# Altium footprint library MicroLPR_DSP.PcbLib: 41 footprints (part 1 of 3)
Each footprint in its own frame and in the unit in brackets; x right, y up, seen from the top. Pads: shape width x height; smd on the part's side, far side on the other; paste and mask are expansions set on the pad; w line width, h text height; cw(c..) or ccw(c..) is an arc to the next point about the centre after c.
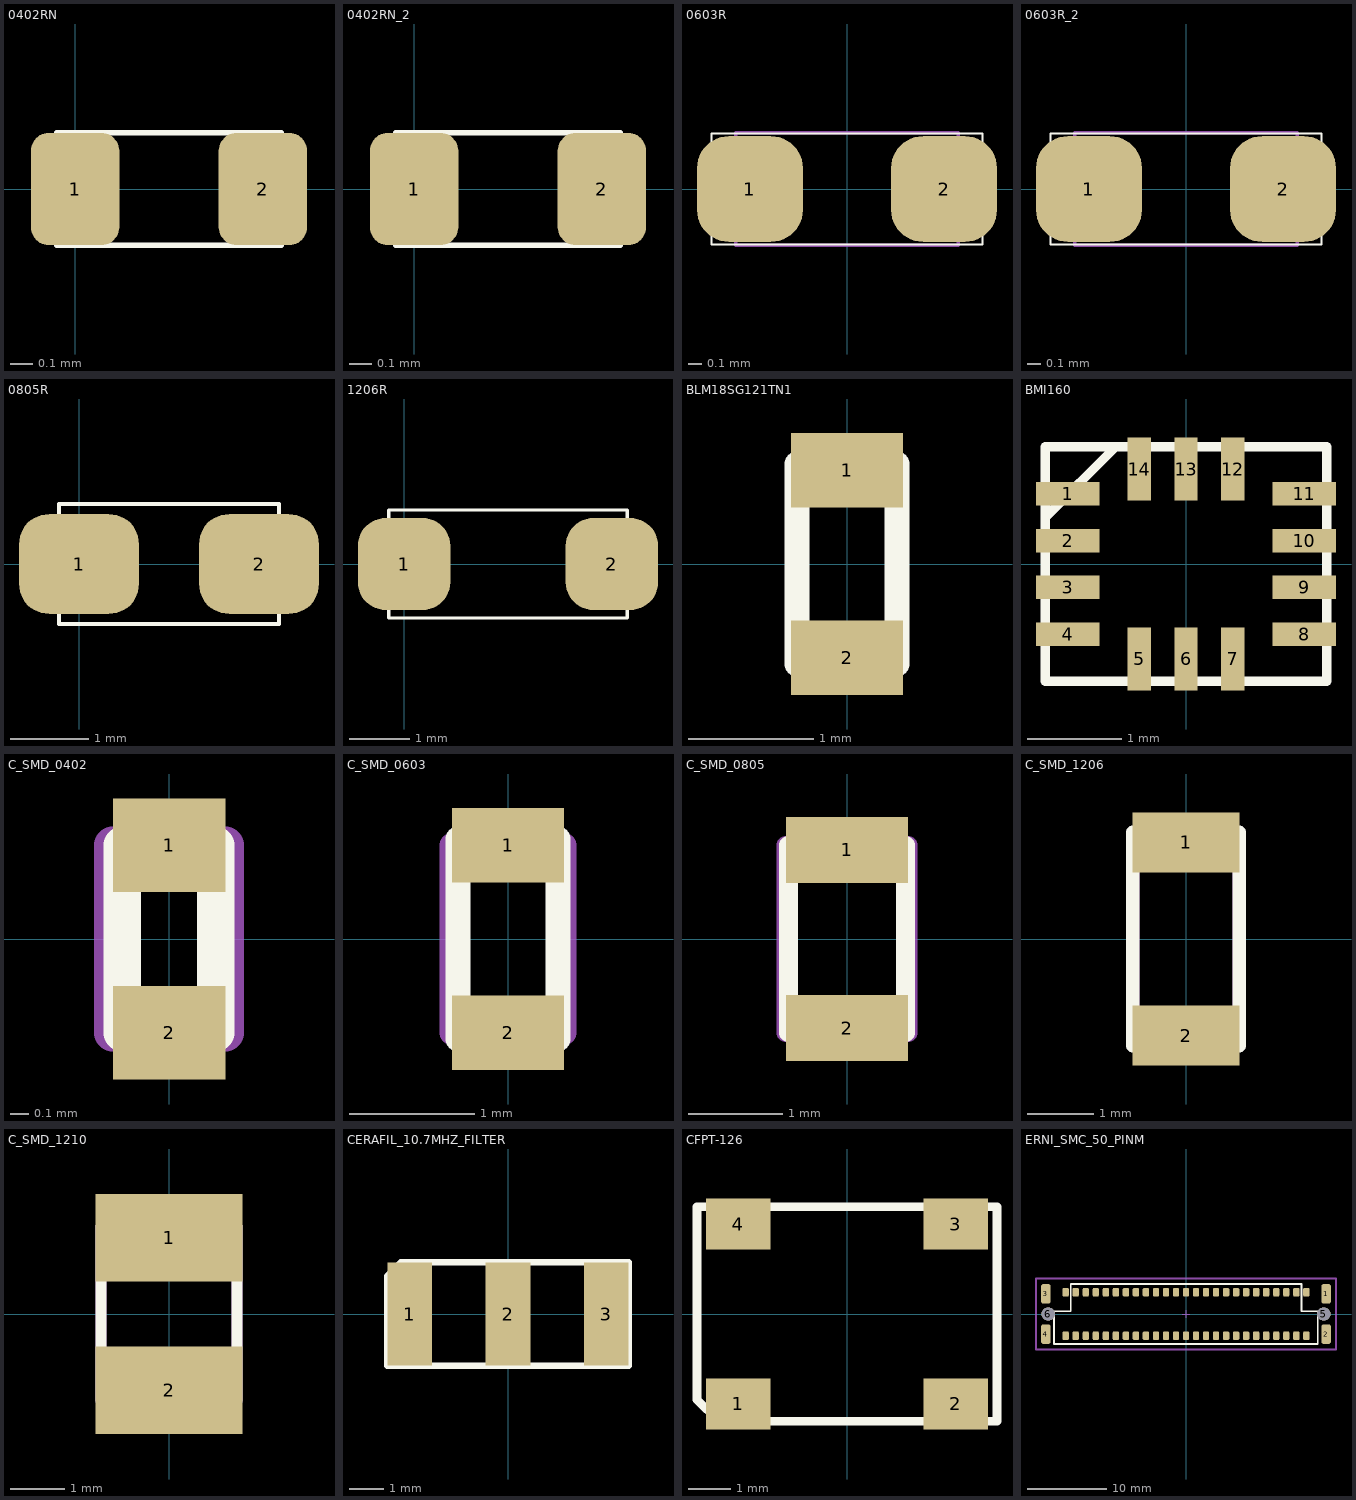
[diagram p0: the footprints below, top view; thin cyan lines are the x and y axes]

## 0402RN [mm] "New 0402 Pad with rounded corners"
height 13.5
pads (2):
  rrect40% 0.4x0.508 smd: 1(0,0) 2(0.85,0)
Top Overlay:
  lines w0.025: -0.083,-0.254 0.933,-0.254 0.933,0.254 -0.083,0.254 -0.083,-0.254
3D body: height 0.5, standoff 0, extent -0.096,-0.267 0.946,0.267

## 0402RN_2 [mm]
pads (2):
  rrect40% 0.4x0.508 smd: 1(0,0) 2(0.85,0)
Top Overlay:
  lines w0.025: -0.083,-0.254 0.933,-0.254 0.933,0.254 -0.083,0.254 -0.083,-0.254
3D body: height 0.5, standoff 0, extent -0.096,-0.267 0.946,0.267

## 0603R [mil]
pads (2):
  rrect60% 30x30 smd: 1(-27.52,0) 2(27.52,0)
Top Overlay:
  lines w0.5: -38.39,-15.75 -38.39,15.75 38.39,15.75 38.39,-15.75 -38.39,-15.75
Mechanical 13:
  lines w1: -31.5,-16 31.5,-16 31.5,16 -31.5,16 -31.5,-16
3D body: height 31.5, standoff 0, extent -31.48,-15.98 31.48,15.98

## 0603R_2 [mil]
pads (2):
  rrect60% 30x30 smd: 1(-27.52,0) 2(27.52,0)
Top Overlay:
  lines w0.5: -38.39,-15.75 38.39,-15.75 38.39,15.75 -38.39,15.75 -38.39,-15.75
Mechanical 13:
  lines w1: -31.5,-16 -31.5,16 31.5,16 31.5,-16 -31.5,-16
3D body: height 31.5, standoff 0, extent -31.48,-15.98 31.48,15.98

## 0805R [mil]
height 531.5
pads (2):
  rrect60% 60x50 smd: 1(0,0) 2(90,0)
Top Overlay:
  lines w2: -10,-30 -10,30 100,30 100,-30 -10,-30
3D body: height 47.24, standoff 0, extent -11,-31 101,31

## 1206R [mil]
height 39.37
pads (2):
  rrect60% 60x60 smd: 1(0,0) 2(135,0)
Top Overlay:
  lines w2: -10,-35 145,-35 145,35 -10,35 -10,-35
3D body: height 59.06, standoff 0, extent -9.98,-34.98 144.98,34.98

## BLM18SG121TN1 [mm] "120R1MHz/0.025DC"
pads (2):
  rect 0.9x0.6 smd: 1(0,0.75) 2(0,-0.75)
Top Overlay:
  lines w0.2: -0.4,-0.8 0.4,-0.8 0.4,0.8 -0.4,0.8 -0.4,-0.8
3D body "User Library-FB_1608.STEP": height 0.8, standoff 0, extent -0.4,-0.8 0.4,0.8

## BMI160 [mm] "3mmx3mmx0.9mm; 0.5mm pitch"
height 0.9
pads (14):
  rect 0.675x0.25 smd: 1(-1.262,0.75) 2(-1.262,0.25) 3(-1.262,-0.25) 4(-1.262,-0.75) 8(1.262,-0.75) 9(1.262,-0.25) 10(1.262,0.25) 11(1.262,0.75)
  rect 0.25x0.675 smd: 5(-0.5,-1.012) 6(0,-1.012) 7(0.5,-1.012) 12(0.5,1.012) 13(0,1.012) 14(-0.5,1.012)
Top Overlay:
  lines w0.1: -1.5,0.5 -0.75,1.25 ; -1.5,-1.25 -1.5,1.25 1.5,1.25 1.5,-1.25 -1.5,-1.25
3D body: height 0.9, standoff 0, extent -1.5,-1.25 1.5,1.25

## C_SMD_0402 [mm]
pads (2):
  rect 0.6x0.5 smd: 1(0,0.5) 2(0,-0.5)
Top Overlay:
  lines w0.2: -0.25,-0.5 0.25,-0.5 0.25,0.5 -0.25,0.5 -0.25,-0.5
Mechanical 1:
  lines w0.2: -0.3,-0.5 -0.3,0.5 0.3,0.5 0.3,-0.5 -0.3,-0.5
3D body "User Library-SMD CAPACITOR_0402.step": height 0.48, standoff -0.02, extent -0.25,-0.5 0.25,0.5

## C_SMD_0603 [mm]
pads (2):
  rect 0.9x0.6 smd: 1(0,0.75) 2(0,-0.75)
Top Overlay:
  lines w0.2: -0.4,-0.8 -0.4,0.8 0.375,0.8 0.4,0.8 0.4,-0.8 -0.4,-0.8
Mechanical 1:
  lines w0.2: -0.45,-0.75 0.45,-0.75 0.45,0.75 -0.45,0.75 -0.45,-0.75
3D body "User Library-SMD CAPACITOR_0603.step": height 0.78, standoff -0.02, extent -0.4,-0.8 0.4,0.8

## C_SMD_0805 [mm]
pads (2):
  rect 1.3x0.7 smd: 1(0,0.95) 2(0,-0.95)
Top Overlay:
  lines w0.2: -0.625,-1 0.625,-1 0.625,1 -0.625,1 -0.625,-1
Mechanical 1:
  lines w0.2: -0.65,-1 0.65,-1 0.65,1 -0.65,1 -0.65,-1
3D body "User Library-SMD CAPACITOR_0805.step": height 0.59, standoff -0.01, extent -0.625,-1 0.625,1

## C_SMD_1206 [mm]
pads (2):
  rect 1.6x0.9 smd: 1(0,1.45) 2(0,-1.45)
Top Overlay:
  lines w0.2: -0.8,-1.6 0.8,-1.6 0.8,1.6 -0.8,1.6 -0.8,-1.6
Mechanical 1:
  lines w0.2: -0.8,-1.5 -0.8,1.5 0.8,1.5 0.8,-1.5 -0.8,-1.5
3D body "User Library-SMD CAPACITOR_1206.step": height 0.76, standoff -0.02, extent -0.8,-1.6 0.8,1.6

## C_SMD_1210 [mm]
pads (2):
  rect 2.7x1.6 smd: 1(0,1.4) 2(0,-1.4)
Top Overlay:
  lines w0.2: -1.25,-1.575 -1.225,-1.6 1.225,-1.6 1.25,-1.575 1.25,1.6 -1.25,1.6 -1.25,-1.575
Mechanical 1:
  lines w0.2: -1.25,-1.6 -1.25,1.6 1.25,1.6 1.25,-1.6 -1.25,-1.6
3D body "User Library-SMD CAPACITOR_1210step.step": height 0.76, standoff -0.01, extent -1.25,-1.6 1.25,1.6

## CERAFIL_10.7MHZ_FILTER [mm]
pads (3):
  rect 1.3x3 smd: 1(-2.85,0) 2(0,0) 3(2.85,0)
Top Overlay:
  lines w0.2: -3.5,-1.5 3.5,-1.5 3.5,1.5 -3.1,1.5 -3.5,1.1 -3.5,-1.5
3D body "SFECV.STEP": height 1.52, standoff 0, extent -3.5,-1.51 3.5,1.51

## CFPT-126 [mm]
pads (4):
  rect 1.5x1.2 smd: 1(-2.537,-2.1) 2(2.538,-2.1) 3(2.538,2.1) 4(-2.537,2.1)
Top Overlay:
  lines w0.2: -3.5,-2 -3,-2.5 3.5,-2.5 3.5,2.5 -3.5,2.5 -3.5,-2
3D body "CFPT-126_v14.step": height 2, standoff 0, extent -3.5,-2.5 3.5,2.5

## ERNI_SMC_50_PINM [mm]
pads (56):
  rrect50% 1.2x2.5 smd: 1(17.75,2.55) 2(17.75,-2.55) 3(-17.75,2.55) 4(-17.75,-2.55)
  round 1.7 hole 1.7 paste+0 mask+0: 5(17.45,0) 6(-17.45,0)
  rrect50% 0.8x1.1 smd: a1(15.24,2.75) a2(13.97,2.75) a3(12.7,2.75) a4(11.43,2.75) a5(10.16,2.75) a6(8.89,2.75) a7(7.62,2.75) a8(6.35,2.75) a9(5.08,2.75) a10(3.81,2.75) a11(2.54,2.75) a12(1.27,2.75) a13(0,2.75) a14(-1.27,2.75) a15(-2.54,2.75) a16(-3.81,2.75) a17(-5.08,2.75) a18(-6.35,2.75) a19(-7.62,2.75) a20(-8.89,2.75) a21(-10.16,2.75) a22(-11.43,2.75) a23(-12.7,2.75) a24(-13.97,2.75) a25(-15.24,2.75) b1(15.24,-2.75) b2(13.97,-2.75) b3(12.7,-2.75) b4(11.43,-2.75) b5(10.16,-2.75) b6(8.89,-2.75) b7(7.62,-2.75) b8(6.35,-2.75) b9(5.08,-2.75) b10(3.81,-2.75) b11(2.54,-2.75) b12(1.27,-2.75) b13(0,-2.75) b14(-1.27,-2.75) b15(-2.54,-2.75) b16(-3.81,-2.75) b17(-5.08,-2.75) b18(-6.35,-2.75) b19(-7.62,-2.75) b20(-8.89,-2.75) b21(-10.16,-2.75) b22(-11.43,-2.75) b23(-12.7,-2.75) b24(-13.97,-2.75) b25(-15.24,-2.75)
Top Overlay:
  lines w0.25: -16.725,-3.785 -16.725,0.35 -14.6,0.35 -14.6,3.785 14.605,3.785 14.605,0.35 16.69,0.35 16.69,-3.785 16.495,-3.785 -16.525,-3.785 -16.725,-3.785
Mechanical 15:
  lines w0.1: -0.5,0 0.5,0 ; 0,-0.5 0,0.5
  lines w0.25: -19,-4.5 19,-4.5 19,4.5 -19,4.5 -19,-4.5
3D body "154807.STEP": height 6.22, standoff -0.78, extent -18.415,-3.5 18.415,3.5